# EAGLE library part PTRAFO_L (library Trafo)
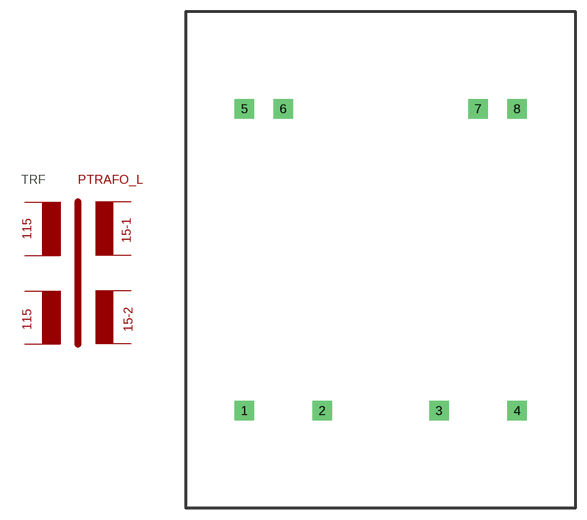
[diagram p2: symbol with the pads of PTRAFO_L; footprint PTRAFO_L]

Designator prefix TRF

## PTRAFO_L  [PTRAFO_L]
1  P2B
2  P2A
3  P1B
4  P1A
5  S2B
6  S2A
7  S1B
8  S1A

## Footprint PTRAFO_L (pad centres in mm)
drill 1 pad 2.54 square: 1 7.62,12.7; 2 17.78,12.7; 3 33.02,12.7; 4 43.18,12.7; 5 7.62,52.07; 6 12.7,52.07; 7 38.1,52.07; 8 43.18,52.07